# Altium footprint library pulser_driver_footprints.PcbLib: 56 footprints (part 3 of 4)
Each footprint in its own frame and in the unit in brackets; x right, y up, seen from the top. Pads: shape width x height; smd on the part's side, far side on the other; paste and mask are expansions set on the pad; w line width, h text height; cw(c..) or ccw(c..) is an arc to the next point about the centre after c.
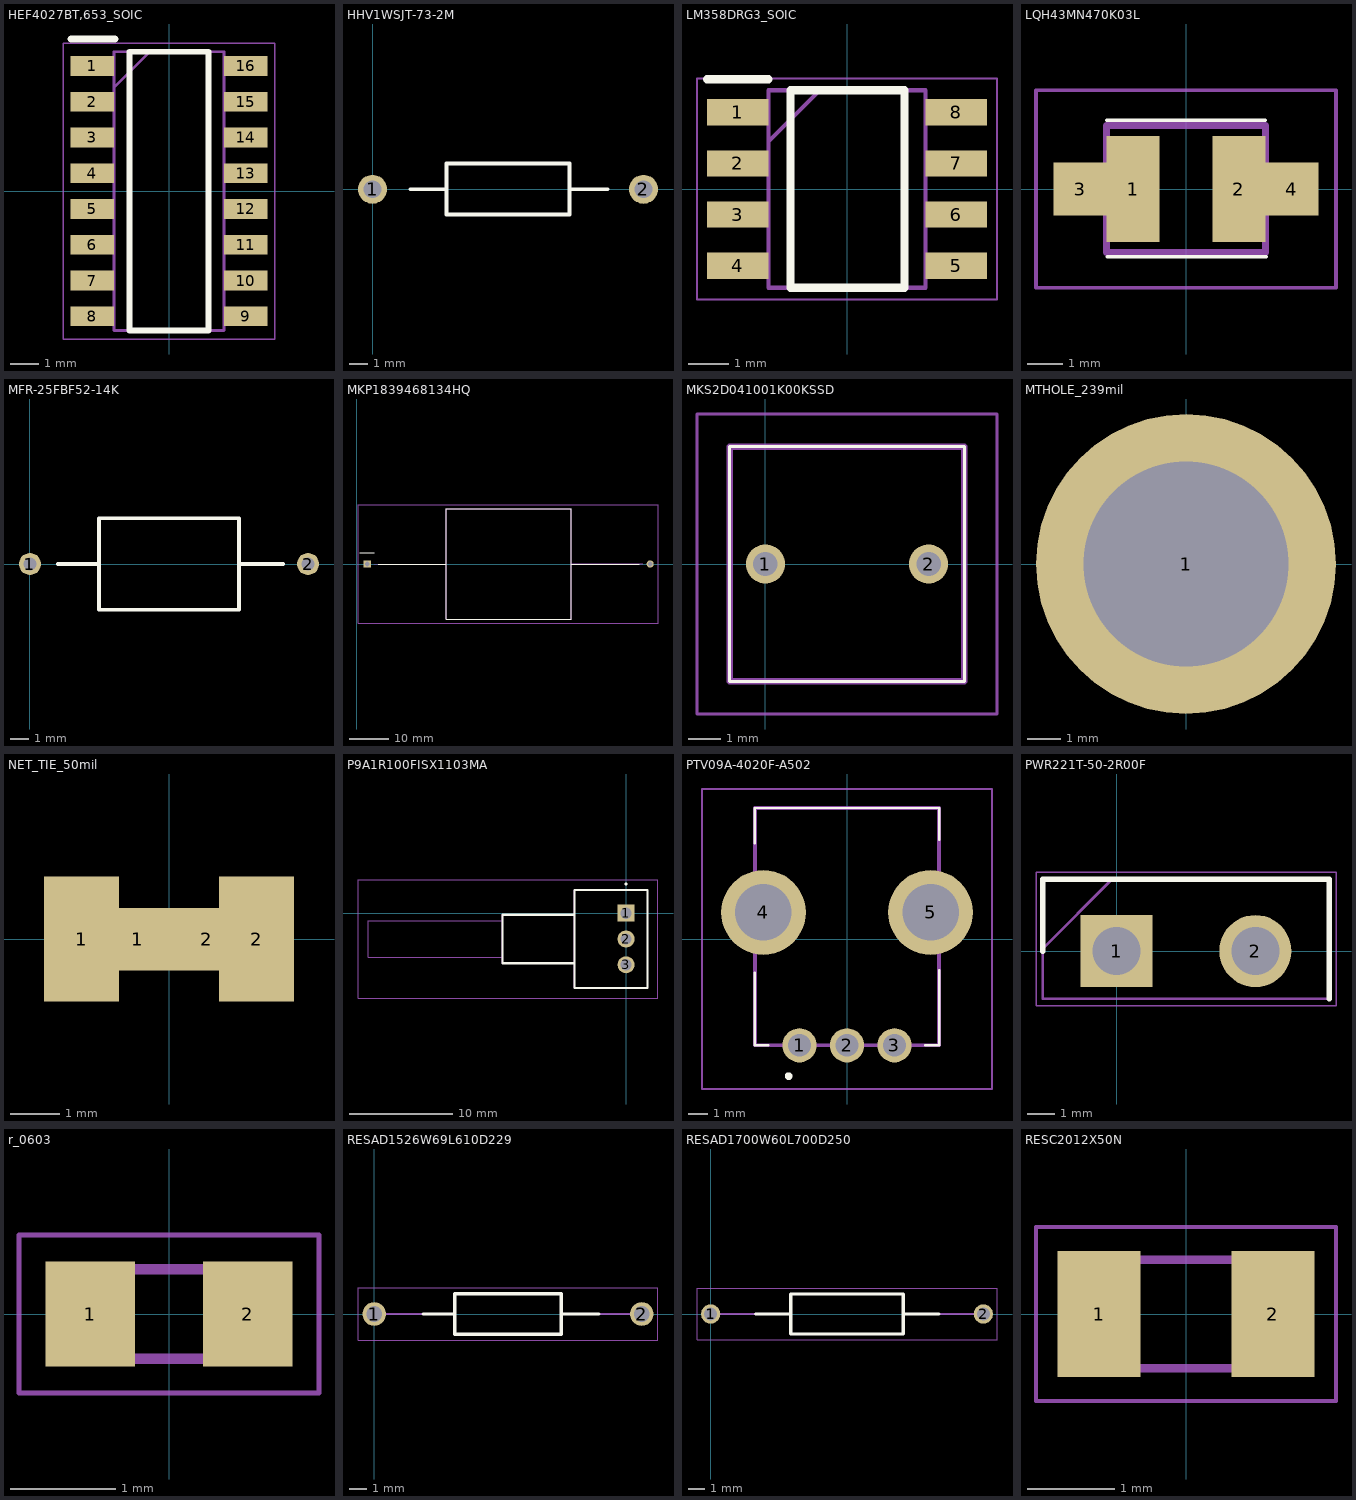
[diagram p2: the footprints below, top view; thin cyan lines are the x and y axes]

## HEF4027BT,653_SOIC [mm]
pads (16):
  rect 1.55x0.7 smd: 1(-2.725,4.445) 2(-2.725,3.175) 3(-2.725,1.905) 4(-2.725,0.635) 5(-2.725,-0.635) 6(-2.725,-1.905) 7(-2.725,-3.175) 8(-2.725,-4.445) 9(2.725,-4.445) 10(2.725,-3.175) 11(2.725,-1.905) 12(2.725,-0.635) 13(2.725,0.635) 14(2.725,1.905) 15(2.725,3.175) 16(2.725,4.445)
Top Overlay:
  lines w0.2: -1.4,-4.95 1.4,-4.95 1.4,4.95 -1.4,4.95 -1.4,-4.95
  lines w0.254: -3.475,5.4 -1.925,5.4
Mechanical 13:
  lines w0.1: -1.95,3.68 -0.68,4.95 ; -1.95,-4.95 1.95,-4.95 1.95,4.95 -1.95,4.95 -1.95,-4.95
Mechanical 15:
  lines w0.05: -3.75,-5.25 3.75,-5.25 3.75,5.25 -3.75,5.25 -3.75,-5.25
3D body "HEF4027BT,653.stp": height 1.75, standoff 0, extent -3,-4.95 3,4.95

## HHV1WSJT-73-2M [mm]
pads (2):
  round 1.55 hole 0.95: 1(0,0) 2(14.48,0)
Top Overlay:
  lines w0.2: 2.032,0 3.95,0 ; 10.53,0 12.573,0 ; 3.95,0 3.95,-1.345 10.53,-1.345 10.53,1.375 3.95,1.375 3.95,0
3D body "YAG_HHV50_YAG.step": height 3.61, standoff -2.79, extent -0.305,-1.803 14.783,1.803

## LM358DRG3_SOIC [mm]
pads (8):
  rect 1.528x0.65 smd: 1(-2.711,1.905) 2(-2.711,0.635) 3(-2.711,-0.635) 4(-2.711,-1.905) 5(2.711,-1.905) 6(2.711,-0.635) 7(2.711,0.635) 8(2.711,1.905)
Top Overlay:
  lines w0.2: -3.475,2.725 -2.948,2.725 -2.475,2.725 -1.948,2.725 ; -1.4,-2.452 1.425,-2.452 1.425,2.452 -1.4,2.452 -1.4,-2.452
Mechanical 13:
  lines w0.1: -1.948,1.182 -0.678,2.452 ; -1.948,-2.452 1.948,-2.452 1.948,2.452 -1.948,2.452 -1.948,-2.452
Mechanical 15:
  lines w0.05: -3.725,-2.75 3.725,-2.75 3.725,2.75 -3.725,2.75 -3.725,-2.75
3D body "LM358DRG3.stp": height 1.75, standoff 0, extent -2.997,-2.452 2.997,2.452

## LQH43MN470K03L [mm]
pads (4):
  rect 1.5x3 smd: 1(-1.5,0) 2(1.5,0)
  rect 1.5x1.5 smd: 3(-3,0) 4(3,0)
Top Overlay:
  lines w0.1: -2.25,1.95 2.25,1.95 ; -2.225,-1.925 2.275,-1.925
Mechanical 13:
  lines w0.2: -2.25,-1.8 -2.25,1.8 2.25,1.8 2.25,-1.8 -2.25,-1.8
Mechanical 15:
  lines w0.1: -4.25,-2.8 -4.25,2.8 4.25,2.8 4.25,-2.8 -4.25,-2.8
3D body "LQH43NN102J03L.stp": height 2.8, standoff 0, extent -2.25,-1.9 2.25,1.9

## MFR-25FBF52-14K [mm]
pads (2):
  round 1.2 hole 0.7: 1(0,0) 2(15.2,0)
Top Overlay:
  lines w0.2: 1.524,0 3.775,0 ; 11.425,0 13.843,0 ; 3.775,0 3.775,-2.5 11.425,-2.5 11.425,2.5 3.775,2.5 3.775,0
3D body "YAG_MF25_YAG.step": height 2.61, standoff -2.79, extent 1.473,-1.306 13.767,1.306

## MKP1839468134HQ [mm]
pads (2):
  rect 1.8x1.8 hole 1.2: 1(2.718,0)
  round 1.8 hole 1.2: 2(74.216,0)
Top Overlay:
  lines w0.2: 5.461,0 22.717,0 ; 54.217,0 71.501,0 ; 22.717,-14 54.217,-14 54.217,14 22.717,14 22.717,-14
  lines w0.203: 0.753,2.794 4.436,2.794
Mechanical 5:
  lines w0.2: 4.563,0 22.717,0 ; 54.217,0 72.381,0 ; 22.717,-14 54.217,-14 54.217,14 22.717,14 22.717,-14
Mechanical 15:
  lines w0.1: 0.372,-15 76.191,-15 76.191,15 0.372,15 0.372,-15

## MKS2D041001K00KSSD [mm]
pads (2):
  round 1.2 hole 0.75: 1(0,0) 2(5,0)
Top Overlay:
  lines w0.1: -1.1,-3.6 6.1,-3.6 ; -1.1,-3.6 -1.1,3.6 ; -1.1,-3.6 6.1,-3.6 ; -1.1,-3.6 -1.1,3.6 ; -1.1,3.6 6.1,3.6 ; -1.1,3.6 6.1,3.6 ; 6.1,-3.6 6.1,3.6 ; 6.1,-3.6 6.1,3.6
Mechanical 13:
  lines w0.2: -1.1,-3.6 6.1,-3.6 6.1,3.6 -1.1,3.6 -1.1,-3.6
Mechanical 15:
  lines w0.1: -2.1,-4.6 7.1,-4.6 7.1,4.6 -2.1,4.6 -2.1,-4.6
3D body "MKS2D041001K00KSSD.stp": height 13.1, standoff -5, extent -1.1,-3.6 6.1,3.6

## MTHOLE_239mil [mil]
pads (1):
  round 350 hole 239: 1(0,0)

## NET_TIE_50mil [mil]
pads (4):
  rect 60x100 smd paste-99999 mask+0: 1(-70,0) 2(70,0)
  rect 60x50 smd paste-99999 mask+0: 1(-25,0) 2(30,0)

## P9A1R100FISX1103MA [mm]
pads (3):
  rect 1.65x1.65 hole 1.1: 1(0,0)
  round 1.65 hole 1.1: 2(0,-2.5) 3(0,-5)
Top Overlay:
  lines w0.2: -12,-4.25 -12,-0.75 ; 0,2.8 ccw(c0,2.85) 0,2.9 ; 0,2.8 cw(c0,2.85) 0,2.9 ; 0,2.8 0,2.9 ; -12,-4.85 -5,-4.85 -5,-0.15 -12,-0.15 -12,-4.85 ; -5,-7.25 2.1,-7.25 2.1,2.25 -5,2.25 -5,-7.25
Mechanical 13:
  lines w0.1: -25,-4.25 -12,-4.25 -12,-0.75 -25,-0.75 -25,-4.25 ; -12,-4.85 -5,-4.85 -5,-0.15 -12,-0.15 -12,-4.85 ; -5,-7.25 2.1,-7.25 2.1,2.25 -5,2.25 -5,-7.25
Mechanical 15:
  lines w0.1: -26,-8.25 3.1,-8.25 3.1,3.25 -26,3.25 -26,-8.25
3D body "P9A1R100FISX1103MA.stp": height 11.45, standoff -5, extent -25,-7.25 2.1,2.25

## PTV09A-4020F-A502 [mm]
pads (5):
  round 1.8 hole 1.2: 1(-2.5,-5.6) 2(0,-5.6) 3(2.5,-5.6)
  round 4.46 hole 2.973: 4(-4.4,1.4) 5(4.4,1.4)
Top Overlay:
  lines w0.127: -4.85,-1.775 -4.85,-5.6 -4.15,-5.6 ; -4.85,5.05 -4.85,6.9 4.85,6.9 4.85,5.225 ; 4.125,-5.6 4.85,-5.6 4.85,-1.65
  lines w0.2: -3.175,-7.225 cw(c-3.075,-7.225) -2.975,-7.225 cw(c-3.075,-7.225) -3.175,-7.225
Mechanical 13:
  lines w0.2: -4.85,-5.6 4.85,-5.6 4.85,6.9 -4.85,6.9 -4.85,-5.6
Mechanical 15:
  lines w0.1: -7.63,-7.9 7.63,-7.9 7.63,7.9 -7.63,7.9 -7.63,-7.9
3D body "PTV09A-4020F-A502.stp": height 20.1, standoff -5, extent -5.776,-6.099 5.787,6.9

## PWR221T-50-2R00F [mm]
pads (2):
  rect 2.64x2.64 hole 1.76: 1(0,0)
  round 2.64 hole 1.76: 2(5.08,0)
Top Overlay:
  lines w0.2: -2.7,0 -2.7,2.63 7.78,2.63 7.78,-1.75
Mechanical 13:
  lines w0.1: -2.7,0.09 -0.16,2.63 ; -2.7,-1.75 -2.7,2.63 7.78,2.63 7.78,-1.75 -2.7,-1.75
Mechanical 15:
  lines w0.05: -2.95,-2 -2.95,2.88 8.03,2.88 8.03,-2 -2.95,-2
3D body "pwr220t-20.stp": height 15.4, standoff -12.9, extent -2.51,-2.095 7.59,1.905

## r_0603 [mm]
pads (2):
  rect 0.85x1 smd: 1(-0.75,0) 2(0.75,0)
Mechanical 13:
  lines w0.1: -0.788,-0.425 0.788,-0.425 0.788,0.425 -0.788,0.425 -0.788,-0.425
Mechanical 15:
  lines w0.05: -1.425,-0.75 1.425,-0.75 1.425,0.75 -1.425,0.75 -1.425,-0.75
3D body "CRCW0603100RFKTA.stp": height 0.5, standoff 0, extent -0.787,-0.425 0.787,0.425

## RESAD1526W69L610D229 [mm]
pads (2):
  round 1.35 hole 0.9: 1(0,0) 2(15.3,0)
Top Overlay:
  lines w0.2: 2.794,0 4.6,0 ; 10.7,0 12.827,0 ; 4.6,-1.145 4.6,1.145 10.7,1.145 10.7,-1.145 4.6,-1.145
Mechanical 13:
  lines w0.1: 0,0 4.6,0 ; 10.7,0 15.3,0 ; 4.6,-1.145 4.6,1.145 10.7,1.145 10.7,-1.145 4.6,-1.145
Mechanical 15:
  lines w0.05: -0.925,-1.495 -0.925,1.495 16.225,1.495 16.225,-1.495 -0.925,-1.495
3D body "CMF5550R000FKEK70.stp": height 2.48, standoff -2.49, extent -0.342,-1.243 15.605,1.243

## RESAD1700W60L700D250 [mm]
pads (2):
  round 1.2 hole 0.8: 1(0,0) 2(17,0)
Top Overlay:
  lines w0.2: 2.794,0 5,0 ; 12,0 14.224,0 ; 5,-1.25 5,1.25 12,1.25 12,-1.25 5,-1.25
Mechanical 13:
  lines w0.1: 0,0 5,0 ; 12,0 17,0 ; 5,-1.25 5,1.25 12,1.25 12,-1.25 5,-1.25
Mechanical 15:
  lines w0.05: -0.85,-1.6 -0.85,1.6 17.85,1.6 17.85,-1.6 -0.85,-1.6
3D body "OD62GJE.stp": height 2.49, standoff -2.5, extent -0.298,-1.248 17.3,1.248

## RESC2012X50N [mm]
pads (2):
  rect 0.95x1.45 smd: 1(-1,0) 2(1,0)
Mechanical 13:
  lines w0.1: -1.025,-0.625 1.025,-0.625 1.025,0.625 -1.025,0.625 -1.025,-0.625
Mechanical 15:
  lines w0.05: -1.725,-1 1.725,-1 1.725,1 -1.725,1 -1.725,-1
3D body "CRCW080514K0FKEA.stp": height 0.5, standoff 0, extent -1.025,-0.625 1.025,0.625